# Altium footprint library OPA330AIDCKR.PcbLib: 3 footprints
Each footprint in its own frame and in the unit in brackets; x right, y up, seen from the top. Pads: shape width x height; smd on the part's side, far side on the other; paste and mask are expansions set on the pad; w line width, h text height; cw(c..) or ccw(c..) is an arc to the next point about the centre after c.
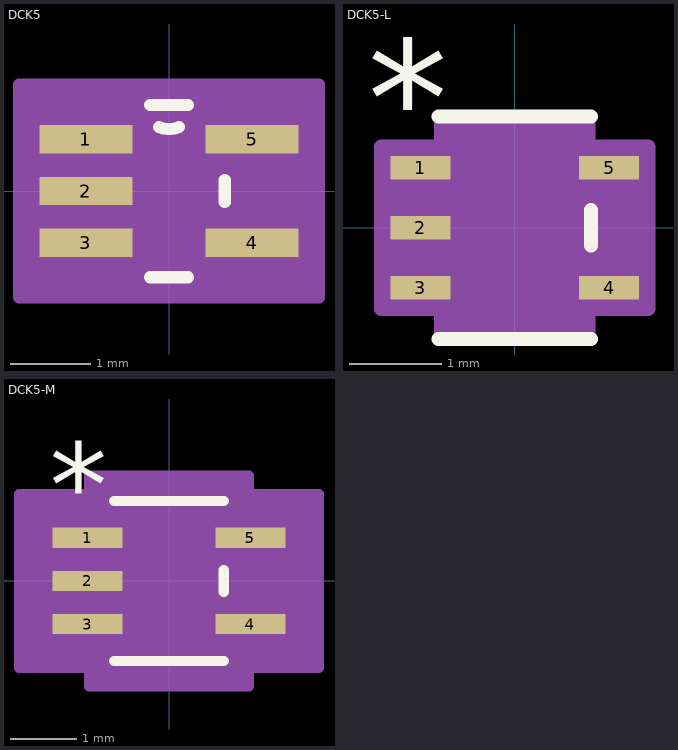
[diagram p0: the footprints below, top view; thin cyan lines are the x and y axes]

## DCK5 [mil]
pads (5):
  rect 46x14 smd paste-23 mask-23: 1(-41,25.59) 2(-41,0) 3(-41,-25.59) 4(41,-25.59) 5(41,25.59)
Top Overlay:
  lines w6: -9.43,-42.5 9.43,-42.5 ; -9.43,42.5 9.43,42.5 ; -4.9,31.55 ccw(c0,42.5) 4.9,31.55 ; 27.5,-5.49 27.5,5.49
Mechanical 13:
  lines w0: -12,42.5 ccw(c0,42.5) 12,42.5
  lines w1: -47,-31.59 -27.5,-31.59 -27.5,-19.59 -47,-19.59 -47,-31.59 ; -47,-6 -27.5,-6 -27.5,6 -47,6 -47,-6 ; -47,19.59 -27.5,19.59 -27.5,31.59 -47,31.59 -47,19.59 ; -27.5,-42.5 -27.5,42.5 27.5,42.5 27.5,-42.5 -27.5,-42.5 ; 27.5,-31.59 47,-31.59 47,-19.59 27.5,-19.59 27.5,-31.59 ; 27.5,19.59 47,19.59 47,31.59 27.5,31.59 27.5,19.59
Mechanical 15:
  region: 74,-52.5 -74,-52.5 -74,52.5 74,52.5
  lines w6: -74,-52.5 74,-52.5 74,52.5 -74,52.5 -74,-52.5
3D body "DCK5.step": height 43.11, standoff 0, extent -47.01,-42.52 47.01,42.52

## DCK5-L [mil]
pads (5):
  rect 25.5x10 smd paste+0 mask+0: 1(-40.25,25.59) 2(-40.25,0) 3(-40.25,-25.59) 4(40.25,-25.59) 5(40.25,25.59)
Top Overlay:
  lines w6: -32.5,-47.5 32.5,-47.5 ; -32.5,47.5 32.5,47.5 ; 32.5,-7.49 32.5,7.49
  text "*" at -62.75,30.59 h50
Mechanical 13:
  lines w0: -12,42.5 ccw(c0,42.5) 12,42.5
  lines w1: -47,-31.59 -47,-19.59 -27.5,-19.59 -27.5,-31.59 -47,-31.59 ; -47,-6 -47,6 -27.5,6 -27.5,-6 -47,-6 ; -47,19.59 -47,31.59 -27.5,31.59 -27.5,19.59 -47,19.59 ; -27.5,-42.5 27.5,-42.5 27.5,42.5 -27.5,42.5 -27.5,-42.5 ; 27.5,-31.59 27.5,-19.59 47,-19.59 47,-31.59 27.5,-31.59 ; 27.5,19.59 27.5,31.59 47,31.59 47,19.59 27.5,19.59
  text "*" at -30,-7.41 h50
Mechanical 15:
  region: 31.5,-46.5 -31.5,-46.5 -31.5,-34.59 -57,-34.59 -57,34.59 -31.5,34.59 -31.5,46.5 31.5,46.5 31.5,34.59 57,34.59 57,-34.59 31.5,-34.59
  lines w6: -57,-34.59 -31.5,-34.59 -31.5,-46.5 31.5,-46.5 31.5,-34.59 57,-34.59 57,34.59 31.5,34.59 31.5,46.5 -31.5,46.5 -31.5,34.59 -57,34.59 -57,-34.59
3D body "DCK5.step": height 43.11, standoff 0, extent -47.01,-42.52 47.01,42.52

## DCK5-M [mil]
pads (5):
  rect 41.5x12 smd paste+0 mask+0: 1(-48.25,25.59) 2(-48.25,0) 3(-48.25,-25.59) 4(48.25,-25.59) 5(48.25,25.59)
Top Overlay:
  lines w6: -32.5,-47.5 32.5,-47.5 ; -32.5,47.5 32.5,47.5 ; 32.5,-6.49 32.5,6.49
  text "*" at -70.75,32.59 h50
Mechanical 13:
  lines w0: -12,42.5 ccw(c0,42.5) 12,42.5
  lines w1: -47,-31.59 -47,-19.59 -27.5,-19.59 -27.5,-31.59 -47,-31.59 ; -47,-6 -47,6 -27.5,6 -27.5,-6 -47,-6 ; -47,19.59 -47,31.59 -27.5,31.59 -27.5,19.59 -47,19.59 ; -27.5,-42.5 27.5,-42.5 27.5,42.5 -27.5,42.5 -27.5,-42.5 ; 27.5,-31.59 27.5,-19.59 47,-19.59 47,-31.59 27.5,-31.59 ; 27.5,19.59 27.5,31.59 47,31.59 47,19.59 27.5,19.59
  text "*" at -30,-5.41 h50
Mechanical 15:
  region: 47.5,-62.5 -47.5,-62.5 -47.5,-51.59 -89,-51.59 -89,51.59 -47.5,51.59 -47.5,62.5 47.5,62.5 47.5,51.59 89,51.59 89,-51.59 47.5,-51.59
  lines w6: -89,-51.59 -47.5,-51.59 -47.5,-62.5 47.5,-62.5 47.5,-51.59 89,-51.59 89,51.59 47.5,51.59 47.5,62.5 -47.5,62.5 -47.5,51.59 -89,51.59 -89,-51.59
3D body "DCK5.step": height 43.11, standoff 0, extent -47.01,-42.52 47.01,42.52